# Altium schematic symbol library TSV991AIYLT.Schlib: 1 symbol
Pins are listed as number, name and electrical type; pins without a type are passive.

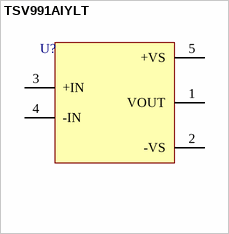
[diagram p0: symbol TSV991AIYLT]

## TSV991AIYLT
designator U?
Rail-to-rail input/output 20 MHz GBP operational amplifier
pins: 1 VOUT, 2 -VS (power), 3 +IN, 4 -IN, 5 +VS (power)